# Altium footprint library TPS631000DRLR.PcbLib: 3 footprints
Each footprint in its own frame and in the unit in brackets; x right, y up, seen from the top. Pads: shape width x height; smd on the part's side, far side on the other; paste and mask are expansions set on the pad; w line width, h text height; cw(c..) or ccw(c..) is an arc to the next point about the centre after c.
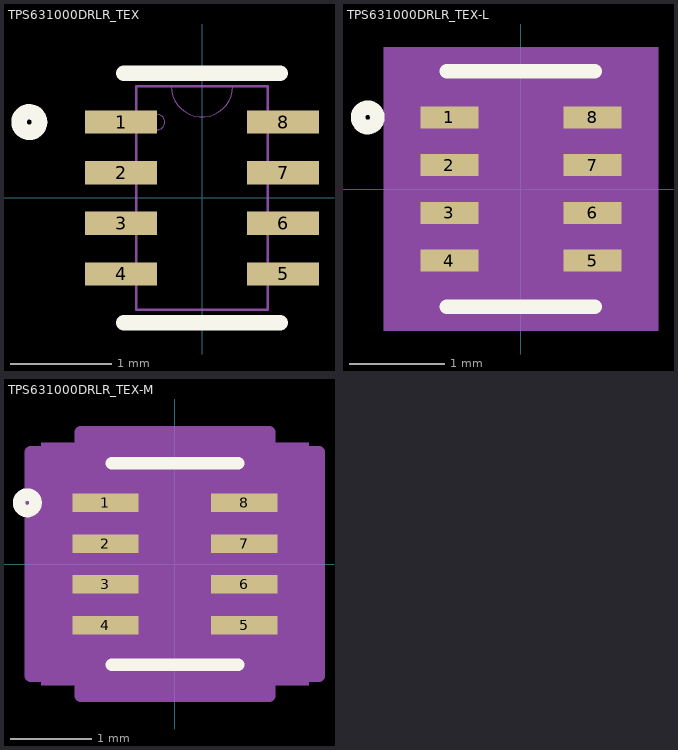
[diagram p0: the footprints below, top view; thin cyan lines are the x and y axes]

## TPS631000DRLR_TEX [mil]
pads (8):
  rect 28x9 smd paste+0 mask+0: 1(-31.5,29.53) 2(-31.5,9.84) 3(-31.5,-9.84) 4(-31.5,-29.53) 5(31.5,-29.53) 6(31.5,-9.84) 7(31.5,9.84) 8(31.5,29.53)
Top Overlay:
  circle w6: c-67.19,29.53 r4
  lines w6: -30.5,-48.5 30.5,-48.5 ; -30.5,48.5 30.5,48.5
Mechanical 13:
  circle w0: c-17.5,29.53 r3
  lines w0: -12,43.5 ccw(c0,43.5) 12,43.5
  lines w1: -25.5,-43.5 25.5,-43.5 25.5,43.5 -25.5,43.5 -25.5,-43.5
3D body "TPS631000DRLR_TEX.step": height 27.09, standoff 0, extent -33.5,-43.5 33.5,43.5

## TPS631000DRLR_TEX-L [mil]
pads (8):
  rect 24x9 smd paste+0 mask+0: 1(-29.5,29.53) 2(-29.5,9.84) 3(-29.5,-9.84) 4(-29.5,-29.53) 5(29.5,-29.53) 6(29.5,-9.84) 7(29.5,9.84) 8(29.5,29.53)
Top Overlay:
  circle w6: c-63.19,29.53 r4
  lines w6: -30.5,-48.5 30.5,-48.5 ; -30.5,48.5 30.5,48.5
Mechanical 5:
  region: 56.5,-58.5 -56.5,-58.5 -56.5,58.5 56.5,58.5
Mechanical 13:
  circle w0: c-17.5,29.53 r3
  lines w0: -12,43.5 ccw(c0,43.5) 12,43.5
  lines w1: -25.5,-43.5 25.5,-43.5 25.5,43.5 -25.5,43.5 -25.5,-43.5
Mechanical 15:
  region: -29.5,-38.03 -45.5,-38.03 -45.5,38.03 -29.5,38.03 -29.5,47.5 29.5,47.5 29.5,38.03 45.5,38.03 45.5,-38.03 29.5,-38.03 29.5,-47.5 -29.5,-47.5
  lines w6: -45.5,-38.03 -45.5,38.03 -29.5,38.03 -29.5,47.5 29.5,47.5 29.5,38.03 45.5,38.03 45.5,-38.03 29.5,-38.03 29.5,-47.5 -29.5,-47.5 -29.5,-38.03 -45.5,-38.03
3D body "TPS631000DRLR_TEX.step": height 27.09, standoff 0, extent -33.5,-43.5 33.5,43.5

## TPS631000DRLR_TEX-M [mil]
pads (8):
  rect 32x9 smd paste+0 mask+0: 1(-33.5,29.53) 2(-33.5,9.84) 3(-33.5,-9.84) 4(-33.5,-29.53) 5(33.5,-29.53) 6(33.5,-9.84) 7(33.5,9.84) 8(33.5,29.53)
Top Overlay:
  circle w6: c-71.19,29.53 r4
  lines w6: -30.5,-48.5 30.5,-48.5 ; -30.5,48.5 30.5,48.5
Mechanical 5:
  region: 64.5,-58.5 -64.5,-58.5 -64.5,58.5 64.5,58.5
Mechanical 13:
  circle w0: c-17.5,29.53 r3
  lines w0: -12,43.5 ccw(c0,43.5) 12,43.5
  lines w1: -25.5,-43.5 25.5,-43.5 25.5,43.5 -25.5,43.5 -25.5,-43.5
Mechanical 15:
  region: -45.5,-54.03 -69.5,-54.03 -69.5,54.03 -45.5,54.03 -45.5,63.5 45.5,63.5 45.5,54.03 69.5,54.03 69.5,-54.03 45.5,-54.03 45.5,-63.5 -45.5,-63.5
  lines w6: -69.5,-54.03 -69.5,54.03 -45.5,54.03 -45.5,63.5 45.5,63.5 45.5,54.03 69.5,54.03 69.5,-54.03 45.5,-54.03 45.5,-63.5 -45.5,-63.5 -45.5,-54.03 -69.5,-54.03
3D body "TPS631000DRLR_TEX.step": height 27.09, standoff 0, extent -33.5,-43.5 33.5,43.5